# EAGLE library part TA7291P (library systas0)
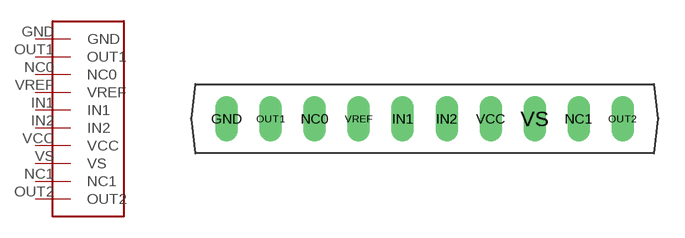
[diagram p1: symbol with the pads of TA7291P; footprint TA7291P]

Designator prefix -

## TA7291P  [TA7291P]
GND  GND
IN1  IN1
IN2  IN2
NC0  NC0
NC1  NC1
OUT1  OUT1
OUT2  OUT2
VCC  VCC
VREF  VREF
VS  VS

## Footprint TA7291P (pad centres in mm)
drill 0.8 long: GND -11.43,0; IN1 -1.27,0; IN2 1.27,0; NC0 -6.35,0; NC1 8.89,0; OUT1 -8.89,0; OUT2 11.43,0; VCC 3.81,0; VREF -3.81,0; VS 6.35,0